# Altium schematic symbol library LM555.SchLib: 1 symbol
Pins are listed as number, name and electrical type; pins without a type are passive.

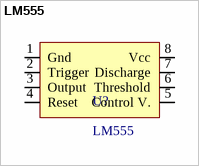
[diagram p0: symbol LM555]

## LM555
designator U?
footprint LM555
pins: 1 Gnd, 2 Trigger, 3 Output, 4 Reset, 5 Control V., 6 Threshold, 7 Discharge, 8 Vcc